# EAGLE library part ATTINY26 (library Atmel_Prototype_Header)
8-bit AVR Microcontroller with 2K Bytes Flash
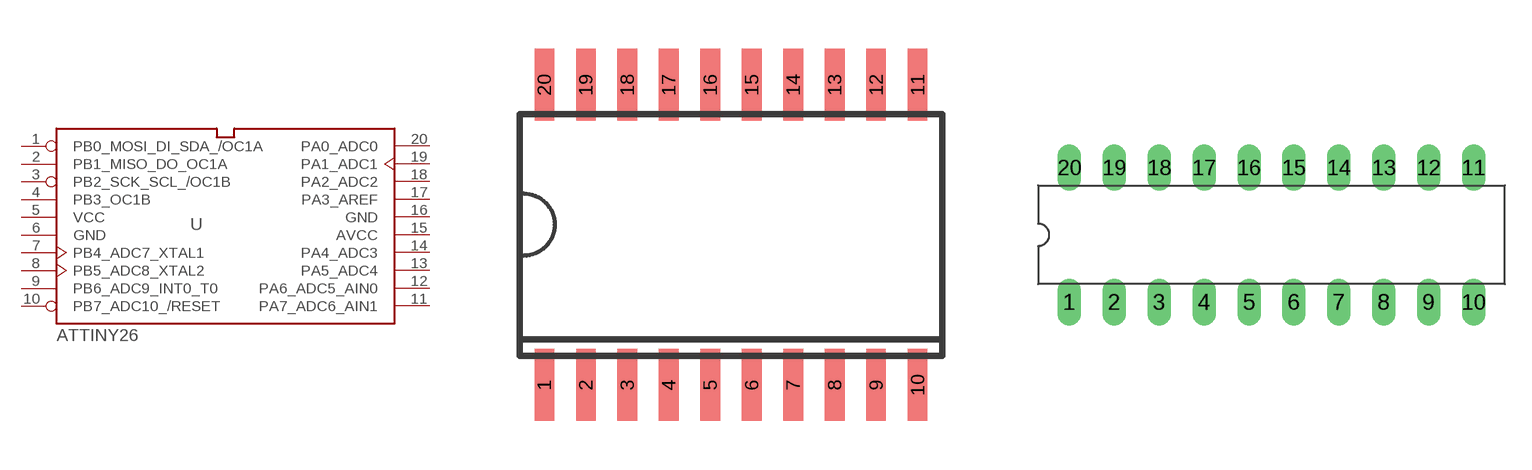
[diagram p6: symbol with the pads of SO-20; footprints SO-20, DIP20]

Designator prefix U

## ATTINY2616SI  [SO-20]
1  PB0_MOSI_DI_SDA_/OC1A  in
2  PB1_MISO_DO_OC1A  in
3  PB2_SCK_SCL_/OC1B  out
4  PB3_OC1B
5  VCC
6  GND
7  PB4_ADC7_XTAL1
8  PB5_ADC8_XTAL2
9  PB6_ADC9_INT0_T0
10  PB7_ADC10_/RESET  pwr
11  PA7_ADC6_AIN1
12  PA6_ADC5_AIN0
13  PA5_ADC4
14  PA4_ADC3
15  AVCC
16  GND
17  PA3_AREF
18  PA2_ADC2
19  PA1_ADC1
20  PA0_ADC0  pwr

## ATTINY2616PI  [DIP20]
Pads as for SO-20

## Footprint SO-20 (pad centres in mm)
smd 0.6 x 2.2: 1 -5.715,-4.6; 2 -4.445,-4.6; 3 -3.175,-4.6; 4 -1.905,-4.6; 5 -0.635,-4.6; 6 0.635,-4.6; 7 1.905,-4.6; 8 3.175,-4.6; 9 4.445,-4.6; 10 5.715,-4.6; 11 5.715,4.6; 12 4.445,4.6; 13 3.175,4.6; 14 1.905,4.6; 15 0.635,4.6; 16 -0.635,4.6; 17 -1.905,4.6; 18 -3.175,4.6; 19 -4.445,4.6; 20 -5.715,4.6

## Footprint DIP20 (pad centres in mm)
drill 0.813 long: 1 -11.43,-3.81; 2 -8.89,-3.81; 3 -6.35,-3.81; 4 -3.81,-3.81; 5 -1.27,-3.81; 6 1.27,-3.81; 7 3.81,-3.81; 8 6.35,-3.81; 9 8.89,-3.81; 10 11.43,-3.81; 11 11.43,3.81; 12 8.89,3.81; 13 6.35,3.81; 14 3.81,3.81; 15 1.27,3.81; 16 -1.27,3.81; 17 -3.81,3.81; 18 -6.35,3.81; 19 -8.89,3.81; 20 -11.43,3.81